# Altium schematic symbol library Schematic_Library_V№6.SchLib: 4 symbols
Pins are listed as number, name and electrical type; pins without a type are passive.

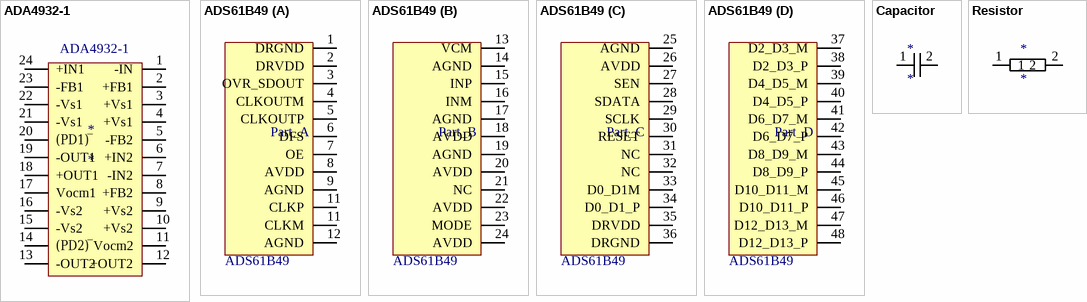
[diagram p0: symbols ADA4932-1 to Resistor]

## ADA4932-1
designator *  Name: ADA4932-1
pins: 1 -IN, 2 +FB1, 3 +Vs1, 4 +Vs1, 5 -FB2, 6 +IN2, 7 -IN2, 8 +FB2, 9 +Vs2, 10 +Vs2, 11 Vocm2, 12 +OUT2, 13 -OUT2, 14 (PD2) ̅, 15 -Vs2, 16 -Vs2, 17 Vocm1, 18 +OUT1, 19 -OUT1, 20 (PD1) ̅, 21 -Vs1, 22 -Vs1, 23 -FB1, 24 +IN1

## ADS61B49
designator Part_  Name: ADS61B49  (hidden comment: *)
part A pins: 1 DRGND, 2 DRVDD, 3 OVR_SDOUT, 4 CLKOUTM, 5 CLKOUTP, 6 DFS, 7 OE, 8 AVDD, 9 AGND, 11 CLKP, 11 CLKM, 12 AGND
part B pins: 13 VCM, 14 AGND, 15 INP, 16 INM, 17 AGND, 18 AVDD, 19 AGND, 20 AVDD, 21 NC, 22 AVDD, 23 MODE, 24 AVDD
part C pins: 25 AGND, 26 AVDD, 27 SEN, 28 SDATA, 29 SCLK, 30 RESET, 31 NC, 32 NC, 33 D0_D1M, 34 D0_D1_P, 35 DRVDD, 36 DRGND
part D pins: 37 D2_D3_M, 38 D2_D3_P, 39 D4_D5_M, 40 D4_D5_P, 41 D6_D7_M, 42 D6_D7_P, 43 D8_D9_M, 44 D8_D9_P, 45 D10_D11_M, 46 D10_D11_P, 47 D12_D13_M, 48 D12_D13_P

## Capacitor
designator *
pins: 1, 2

## Resistor
designator *
pins: 1, 2